# Altium footprint library M3.PcbLib: 33 footprints (part 2 of 3)
Each footprint in its own frame and in the unit in brackets; x right, y up, seen from the top. Pads: shape width x height; smd on the part's side, far side on the other; paste and mask are expansions set on the pad; w line width, h text height; cw(c..) or ccw(c..) is an arc to the next point about the centre after c.
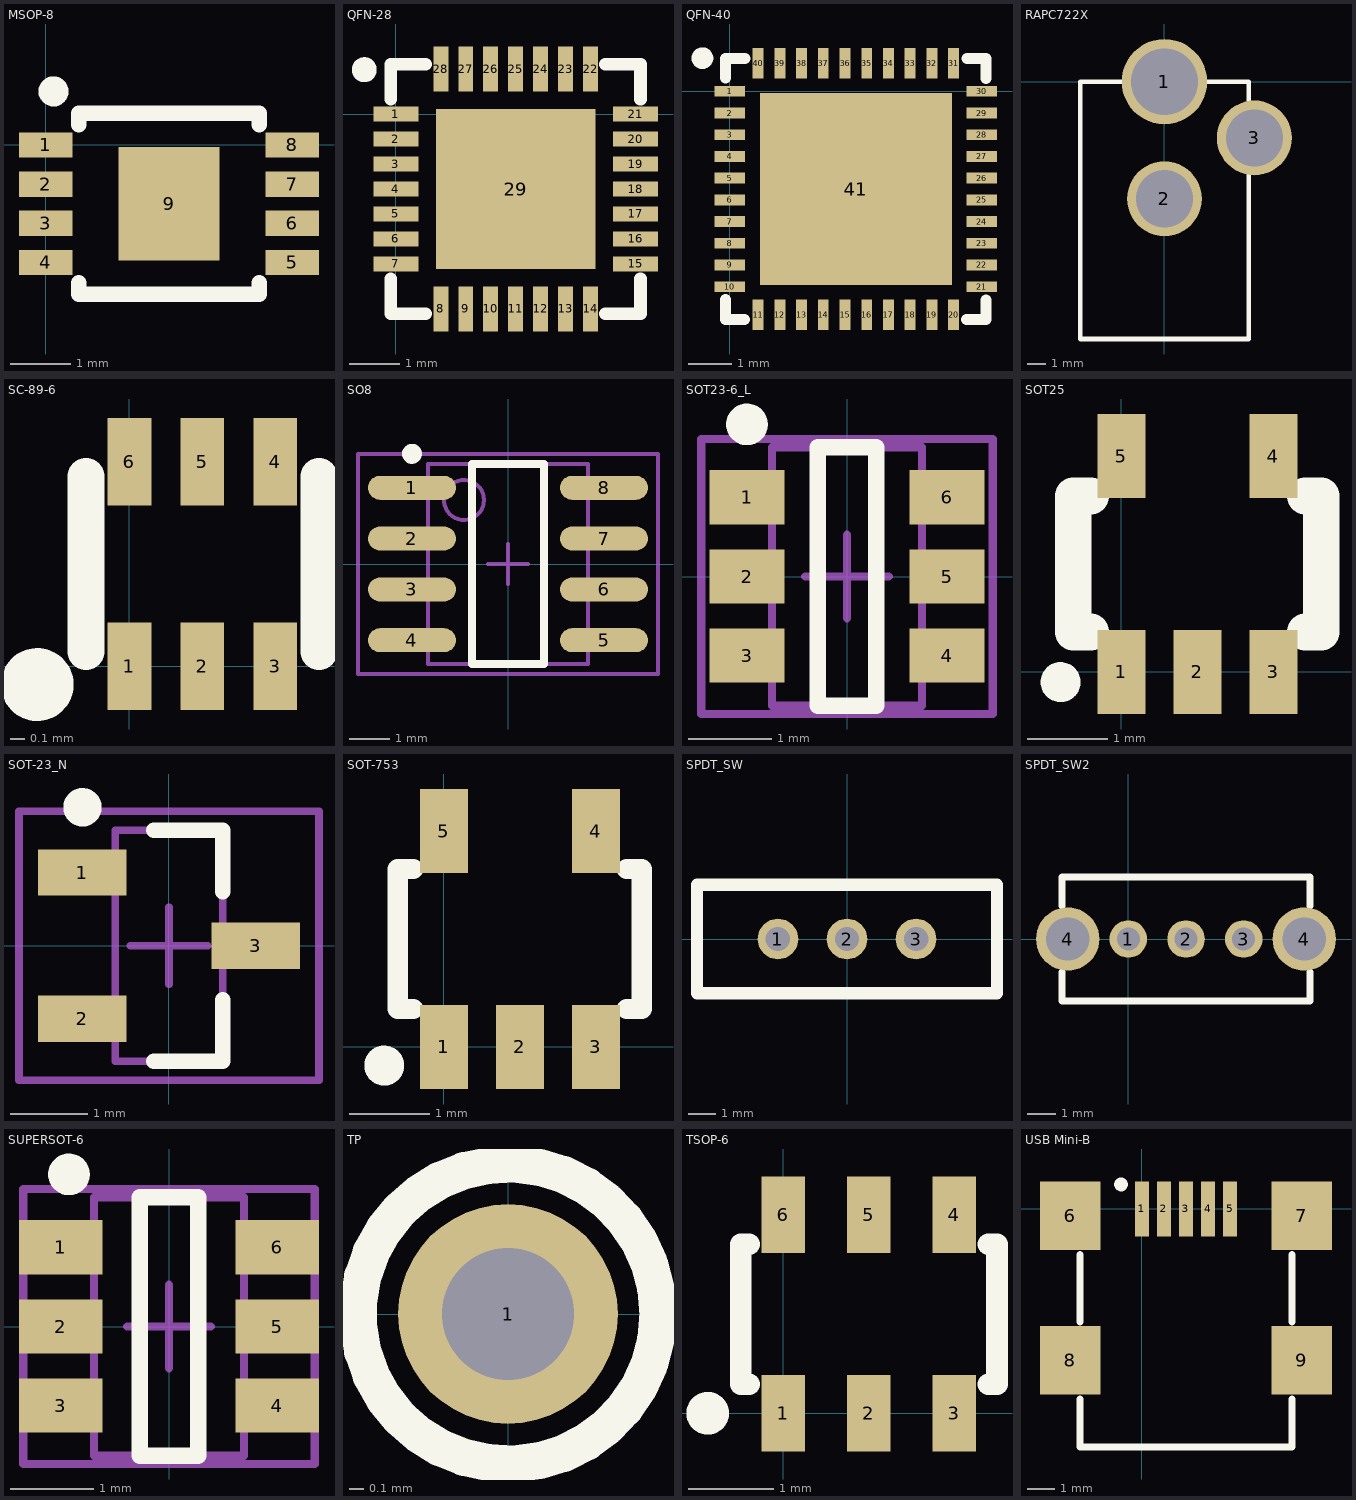
[diagram p1: the footprints below, top view; thin cyan lines are the x and y axes]

## MSOP-8 [mm]
pads (9):
  rect 0.889x0.42 smd: 1(0,0) 2(0,-0.65) 3(0,-1.3) 4(0,-1.95) 5(4.089,-1.95) 6(4.089,-1.3) 7(4.089,-0.65) 8(4.089,0)
  rect 1.68x1.88 smd: 9(2.045,-0.975)
Top Overlay:
  circle w0.25: c0.129,0.889 r0.125
  lines w0.254: 0.545,-2.286 0.545,-2.475 3.54,-2.475 3.54,-2.286 ; 0.545,0.337 0.545,0.525 3.54,0.525 3.54,0.337

## QFN-28 [mm]
pads (29):
  rect 0.9x0.3 smd: 1(0,0) 2(0,-0.5) 3(0,-1) 4(0,-1.5) 5(0,-2) 6(0,-2.5) 7(0,-3) 15(4.8,-3) 16(4.8,-2.5) 17(4.8,-2) 18(4.8,-1.5) 19(4.8,-1) 20(4.8,-0.5) 21(4.8,0)
  rect 0.3x0.9 smd: 8(0.9,-3.9) 9(1.4,-3.9) 10(1.9,-3.9) 11(2.4,-3.9) 12(2.9,-3.9) 13(3.4,-3.9) 14(3.9,-3.9) 22(3.9,0.9) 23(3.4,0.9) 24(2.9,0.9) 25(2.4,0.9) 26(1.9,0.9) 27(1.4,0.9) 28(0.9,0.9)
  rect 3.2x3.2 smd: 29(2.4,-1.5)
Top Overlay:
  circle w0.25: c-0.633,0.889 r0.125
  lines w0.254: -0.1,-3.3 -0.1,-4 0.6,-4 ; -0.1,0.3 -0.1,1 0.6,1 ; 4.2,-4 4.9,-4 4.9,-3.3 ; 4.2,1 4.9,1 4.9,0.3

## QFN-40 [mm]
pads (41):
  rect 0.7x0.25 smd: 1(0,0) 2(0,-0.5) 3(0,-1) 4(0,-1.5) 5(0,-2) 6(0,-2.5) 7(0,-3) 8(0,-3.5) 9(0,-4) 10(0,-4.5) 21(5.8,-4.5) 22(5.8,-4) 23(5.8,-3.5) 24(5.8,-3) 25(5.8,-2.5) 26(5.8,-2) 27(5.8,-1.5) 28(5.8,-1) 29(5.8,-0.5) 30(5.8,0)
  rect 0.25x0.7 smd: 11(0.65,-5.15) 12(1.15,-5.15) 13(1.65,-5.15) 14(2.15,-5.15) 15(2.65,-5.15) 16(3.15,-5.15) 17(3.65,-5.15) 18(4.15,-5.15) 19(4.65,-5.15) 20(5.15,-5.15) 31(5.15,0.65) 32(4.65,0.65) 33(4.15,0.65) 34(3.65,0.65) 35(3.15,0.65) 36(2.65,0.65) 37(2.15,0.65) 38(1.65,0.65) 39(1.15,0.65) 40(0.65,0.65)
  rect 4.42x4.42 smd: 41(2.9,-2.25)
Top Overlay:
  circle w0.25: c-0.633,0.762 r0.125
  lines w0.254: -0.1,-4.8 -0.1,-5.25 0.339,-5.25 ; -0.1,0.311 -0.1,0.75 0.35,0.75 ; 5.45,-5.25 5.9,-5.25 5.9,-4.811 ; 5.461,0.75 5.9,0.75 5.9,0.3

## RAPC722X [mm] "CONN POWERJACK MINI R/A T/H"
pads (3):
  round 4.56 hole 3.56: 1(0,0)
  round 4 hole 3.05: 2(0,-6.25) 3(4.8,-3)
Top Overlay:
  lines w0.254: -4.5,-13.74 4.5,-13.74 4.5,0 -4.5,0 -4.5,-13.74

## SC-89-6 [mm]
pads (6):
  rect 0.3x0.6 smd: 1(0,0) 2(0.5,0) 3(1,0) 4(1,1.4) 5(0.5,1.4) 6(0,1.4)
Top Overlay:
  circle w0.25: c-0.633,-0.127 r0.125
  lines w0.254: -0.3,0.1 -0.3,1.3 ; 1.3,0.1 1.3,1.3

## SO8 [mm] "SOIC, 8-Leads, Body 4.9x3.9mm, Pitch 1.27mm, IPC Medium Density"
height 1.75
pads (8):
  oval 2.2x0.6 smd: 1(-2.4,1.905) 2(-2.4,0.635) 3(-2.4,-0.635) 4(-2.4,-1.905) 5(2.4,-1.905) 6(2.4,-0.635) 7(2.4,0.635) 8(2.4,1.905)
Top Overlay:
  circle w0.25: c-2.4,2.755 r0.125
  lines w0.2: -0.9,-2.5 -0.9,2.5 0.9,2.5 0.9,-2.5 -0.9,-2.5
Mechanical 13:
  circle w0.1: c-1.1,1.6 r0.5
  lines w0.1: -2,-2.5 -2,2.5 2,2.5 2,-2.5 -2,-2.5
Mechanical 15:
  lines w0.1: -0.5,0 0.5,0 ; 0,-0.5 0,0.5 ; -3.75,-2.75 -3.75,2.75 3.75,2.75 3.75,-2.75 -3.75,-2.75
3D body: height 1.75, standoff 0, extent -2,-2.5 2,2.5

## SOT23-6_L [mm] "SOT23, 6-Leads, Body 2.9x1.6mm, Pitch 0.95mm, Lead Span 2.7mm, IPC High Density"
height 1.45
pads (6):
  rect 0.9x0.65 smd: 1(-1.2,0.95) 2(-1.2,0) 3(-1.2,-0.95) 4(1.2,-0.95) 5(1.2,0) 6(1.2,0.95)
Top Overlay:
  circle w0.25: c-1.2,1.825 r0.125
  lines w0.2: -0.35,-1.55 0.35,-1.55 0.35,1.55 -0.35,1.55 -0.35,-1.55
Mechanical 13:
  lines w0.1: -0.9,-1.55 -0.9,1.55 0.9,1.55 0.9,-1.55 -0.9,-1.55
Mechanical 15:
  lines w0.1: -0.5,0 0.5,0 ; 0,-0.5 0,0.5 ; -1.75,-1.65 -1.75,1.65 1.75,1.65 1.75,-1.65 -1.75,-1.65
3D body: height 1.45, standoff 0, extent -0.9,-1.55 0.9,1.55

## SOT25 [mm]
pads (5):
  rect 0.6x1.05 smd: 1(0,0) 2(0.95,0) 3(1.9,0) 4(1.9,2.7) 5(0,2.7)
Top Overlay:
  circle w0.25: c-0.76,-0.127 r0.125
  lines w0.457: -0.381,0.5 -0.6,0.5 -0.6,2.2 -0.381,2.2 ; 2.3,0.5 2.5,0.5 2.5,2.2 2.3,2.2

## SOT-23_N [mm] "SOT23, 3-Leads, Body 2.9x1.3mm, Pitch 0.95mm, Lead Span 2.5mm, IPC Medium Density"
height 1.1
pads (3):
  rect 1.15x0.6 smd: 1(-1.125,0.95) 2(-1.125,-0.95) 3(1.125,0)
Top Overlay:
  circle w0.25: c-1.125,1.8 r0.125
  lines w0.2: -0.2,-1.5 0.7,-1.5 0.7,-0.7 ; -0.2,1.5 0.7,1.5 0.7,0.7
Mechanical 13:
  lines w0.1: -0.7,-1.5 -0.7,1.5 0.7,1.5 0.7,-1.5 -0.7,-1.5
Mechanical 15:
  lines w0.1: -0.5,0 0.5,0 ; 0,-0.5 0,0.5 ; -1.95,-1.75 -1.95,1.75 1.95,1.75 1.95,-1.75 -1.95,-1.75
3D body: height 1.1, standoff 0, extent -0.7,-1.5 0.7,1.5

## SOT-753 [mm]
pads (5):
  rect 0.6x1.05 smd: 1(0,0) 2(0.95,0) 3(1.9,0) 4(1.9,2.7) 5(0,2.7)
Top Overlay:
  circle w0.25: c-0.744,-0.232 r0.125
  lines w0.254: -0.381,0.475 -0.575,0.475 -0.575,2.225 -0.381,2.225 ; 2.286,0.475 2.475,0.475 2.475,2.225 2.286,2.225

## SPDT_SW [mm]
pads (3):
  round 1.5 hole 0.9: 1(-2.54,0) 2(0,0) 3(2.54,0)
Top Overlay:
  lines w0.457: -5.52,-2 -5.52,2 5.52,2 5.52,-2 -5.52,-2

## SPDT_SW2 [mm]
pads (5):
  round 1.3 hole 0.8: 1(0,0) 2(2,0) 3(4,0)
  round 2.2 hole 1.5: 4(-2.1,0) 4(6.1,0)
Top Overlay:
  lines w0.254: -2.3,-1.143 -2.3,-2.15 6.3,-2.15 6.3,-1.143 ; -2.3,1.143 -2.3,2.15 6.3,2.15 6.3,1.143

## SUPERSOT-6 [mm] "SOT23, 6-Leads, Body 2.9x1.6mm, Pitch 0.95mm, Lead Span 2.7mm, IPC High Density"
height 1.45
pads (6):
  rect 1x0.65 smd: 1(-1.3,0.95) 2(-1.3,0) 3(-1.3,-0.95) 4(1.3,-0.95) 5(1.3,0) 6(1.3,0.95)
Top Overlay:
  circle w0.25: c-1.2,1.825 r0.125
  lines w0.2: -0.35,-1.55 0.35,-1.55 0.35,1.55 -0.35,1.55 -0.35,-1.55
Mechanical 13:
  lines w0.1: -0.9,-1.55 -0.9,1.55 0.9,1.55 0.9,-1.55 -0.9,-1.55
Mechanical 15:
  lines w0.1: -0.5,0 0.5,0 ; 0,-0.5 0,0.5 ; -1.75,-1.65 -1.75,1.65 1.75,1.65 1.75,-1.65 -1.75,-1.65
3D body: height 1.45, standoff 0, extent -0.9,-1.55 0.9,1.55

## TP [mm]
pads (1):
  round 1.5 hole 0.9: 1(0,0)
Top Overlay:
  circle w0.254: c0,0 r1.024

## TSOP-6 [mm]
pads (6):
  rect 0.508x0.9 smd: 1(0,0) 2(1,0) 3(2,0) 4(2,2.325) 5(1,2.325) 6(0,2.325)
Top Overlay:
  circle w0.25: c-0.887,0 r0.125
  lines w0.254: -0.4,0.34 -0.5,0.34 -0.5,1.98 -0.4,1.98 ; 2.4,0.34 2.5,0.34 2.5,1.98 2.4,1.98

## USB Mini-B [mm]
pads (9):
  rect 0.5x2 smd: 1(0,0) 2(0.8,0) 3(1.6,0) 4(2.4,0) 5(3.2,0)
  rect 2.2x2.5 smd: 6(-2.6,-0.25) 7(5.8,-0.25) 8(-2.6,-5.5) 9(5.8,-5.5)
Top Overlay:
  circle w0.25: c-0.76,0.889 r0.125
  lines w0.254: -2.25,-6.9 -2.25,-8.65 5.45,-8.65 5.45,-6.9 ; -2.25,-4.1 -2.25,-1.65 ; 5.45,-4.1 5.45,-1.65